# EAGLE library part MINI_USB (library 08_CONECTOR)
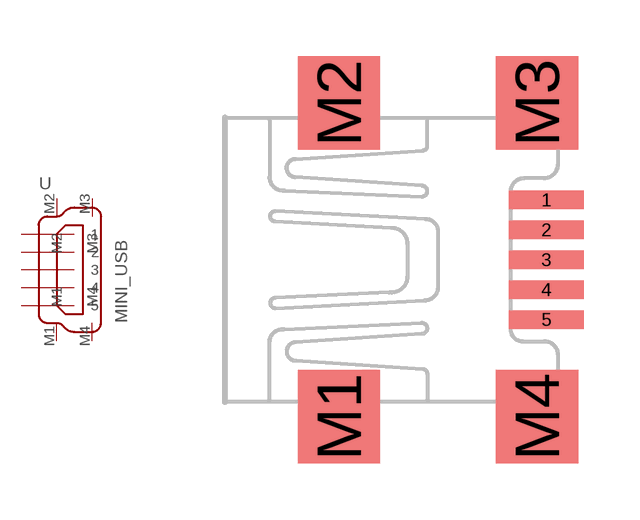
[diagram p3: symbol with the pads of MINI_USB; footprint MINI_USB]

Designator prefix -

## MINI_USB  [MINI_USB]
1  1  in
2  2  in
3  3  in
4  4  in
5  5  in
M1  M1
M2  M2
M3  M3
M4  M4

## Footprint MINI_USB (pad centres in mm)
smd 2 x 0.5: 1 3.52,1.6; 2 3.52,0.8; 3 3.52,0; 4 3.52,-0.8; 5 3.52,-1.6
smd 2.2 x 2.5: M1 -2.03,-4.2; M2 -2.03,4.2; M3 3.27,4.2; M4 3.27,-4.2